# Altium footprint library sht31_connector_footprint.PcbLib: 1 footprints
Each footprint in its own frame and in the unit in brackets; x right, y up, seen from the top. Pads: shape width x height; smd on the part's side, far side on the other; paste and mask are expansions set on the pad; w line width, h text height; cw(c..) or ccw(c..) is an arc to the next point about the centre after c.
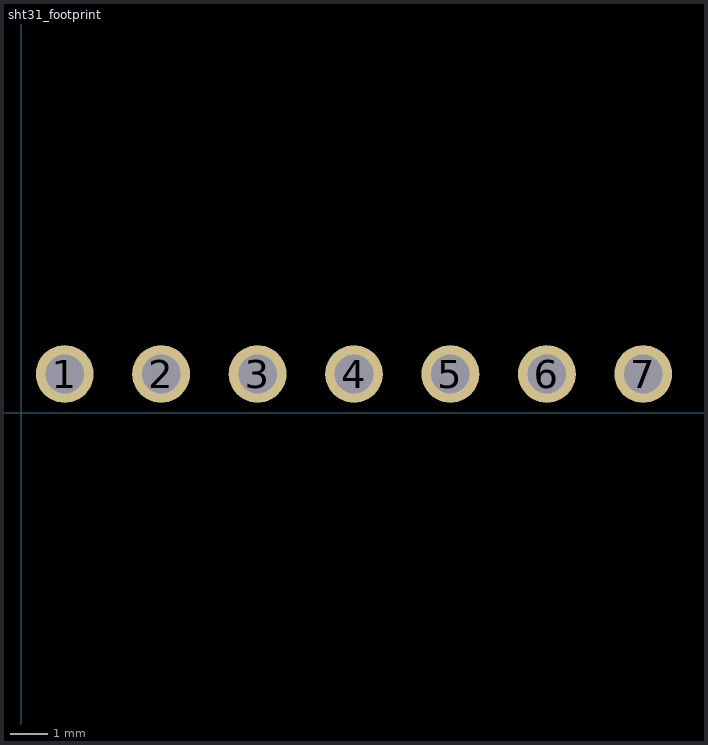
[diagram p0: the footprint, top view; thin cyan lines are the x and y axes]

## sht31_footprint [mil]
pads (7):
  round 60 hole 40: 1(45,40) 2(145,40) 3(245,40) 4(345,40) 5(445,40) 6(545,40) 7(645,40)